# Altium schematic symbol library BAV21W-7-F.Schlib: 1 symbol
Pins are listed as number, name and electrical type; pins without a type are passive.

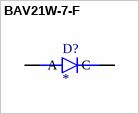
[diagram p0: symbol BAV21W-7-F]

## BAV21W-7-F
designator D?
Diode Switching 200mA 200V 250mW SOD123 | Diodes Inc BAV21W-7-F
pins: A, C